# Altium schematic symbol library Schlib1.SchLib: 8 symbols
Pins are listed as number, name and electrical type; pins without a type are passive.

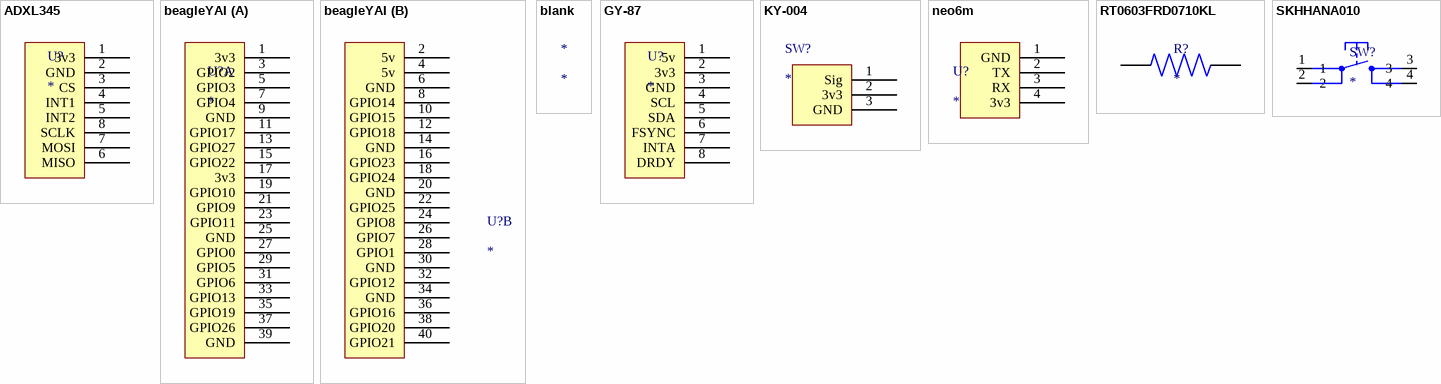
[diagram p0: symbols ADXL345 to SKHHANA010]

## ADXL345
designator U?
ComponentLink1Description: Purchase; ComponentLink1URL: *; ComponentLink2Description: Datasheet; ComponentLink2URL: *; Manufacturer: *; Partnumber: *
footprint single8pinfemale
pins: 1 3v3 (power), 2 GND (power), 3 CS, 4 INT1, 5 INT2, 6 MISO, 7 MOSI, 8 SCLK

## beagleYAI
designator U?
ComponentLink1Description: Purchase; ComponentLink1URL: *; ComponentLink2Description: Datasheet; ComponentLink2URL: *; Manufacturer: *; Partnumber: *
footprint 40pinfemale
part A pins: 1 3v3 (power), 3 GPIO2, 5 GPIO3, 7 GPIO4, 9 GND (power), 11 GPIO17, 13 GPIO27, 15 GPIO22, 17 3v3 (power), 19 GPIO10, 21 GPIO9, 23 GPIO11, 25 GND (power), 27 GPIO0, 29 GPIO5, 31 GPIO6, 33 GPIO13, 35 GPIO19, 37 GPIO26, 39 GND (power)
part B pins: 2 5v (power), 4 5v (power), 6 GND (power), 8 GPIO14, 10 GPIO15, 12 GPIO18, 14 GND (power), 16 GPIO23, 18 GPIO24, 20 GND (power), 22 GPIO25, 24 GPIO8, 26 GPIO7, 28 GPIO1, 30 GND (power), 32 GPIO12, 34 GND (power), 36 GPIO16, 38 GPIO20, 40 GPIO21

## blank
designator *
ComponentLink1Description: Purchase; ComponentLink1URL: *; ComponentLink2Description: Datasheet; ComponentLink2URL: *; Manufacturer: *; Partnumber: *

## GY-87
designator U?
ComponentLink1Description: Purchase; ComponentLink1URL: *; ComponentLink2Description: Datasheet; ComponentLink2URL: *; Manufacturer: *; Partnumber: *
footprint single8pinfemale
pins: 1 5v, 2 3v3, 3 GND, 4 SCL, 5 SDA, 6 FSYNC, 7 INTA, 8 DRDY

## KY-004
designator SW?
ComponentLink1Description: Purchase; ComponentLink1URL: *; ComponentLink2Description: Datasheet; ComponentLink2URL: *; Manufacturer: *; Partnumber: *
footprint single3pinfemale
pins: 1 Sig, 2 3v3, 3 GND

## neo6m
designator U?
ComponentLink1Description: Purchase; ComponentLink1URL: *; ComponentLink2Description: Datasheet; ComponentLink2URL: *; Manufacturer: *; Partnumber: *
footprint single4pinfemale
pins: 1 GND (power), 2 TX, 3 RX, 4 3v3 (power)

## RT0603FRD0710KL
designator R?
Res Thin Film 0603 10K Ohm 1% 0.1W(1/10W) Â±25ppm/C Molded SMD Paper T/R; MF: Yageo; MP: RT0603FRD0710KL; SnapEDA_Link: https://www.snapeda.com/parts/RT0603FRD0710KL/Yageo/view-part/?ref=snap; Package: 1608 Yageo; Value: *; Check_prices: https://www.snapeda.com/parts/RT0603FRD0710KL/Yageo/view-part/?ref=eda
footprint RESC1608X55N
pins: 1, 2

## SKHHANA010
designator SW?
Switch Tactile N.O. SPST Round Button PC Pins 0.05A 12VDC 0.98N Thru-Hole Bulk; MF: ALPS; MP: SKHHANA010; SnapEDA_Link: https://www.snapeda.com/parts/SKHHANA010/ALPS/view-part/?ref=snap; Package: None; Value: *; Check_prices: https://www.snapeda.com/parts/SKHHANA010/ALPS/view-part/?ref=eda
footprint SW_SKHHANA010
pins: 1, 2, 3, 4